# EAGLE library part DSPIC33FJ32GP204-I/PT (library Microchip_By_element14_Batch_1)
16-bit Digital Signal Controllers
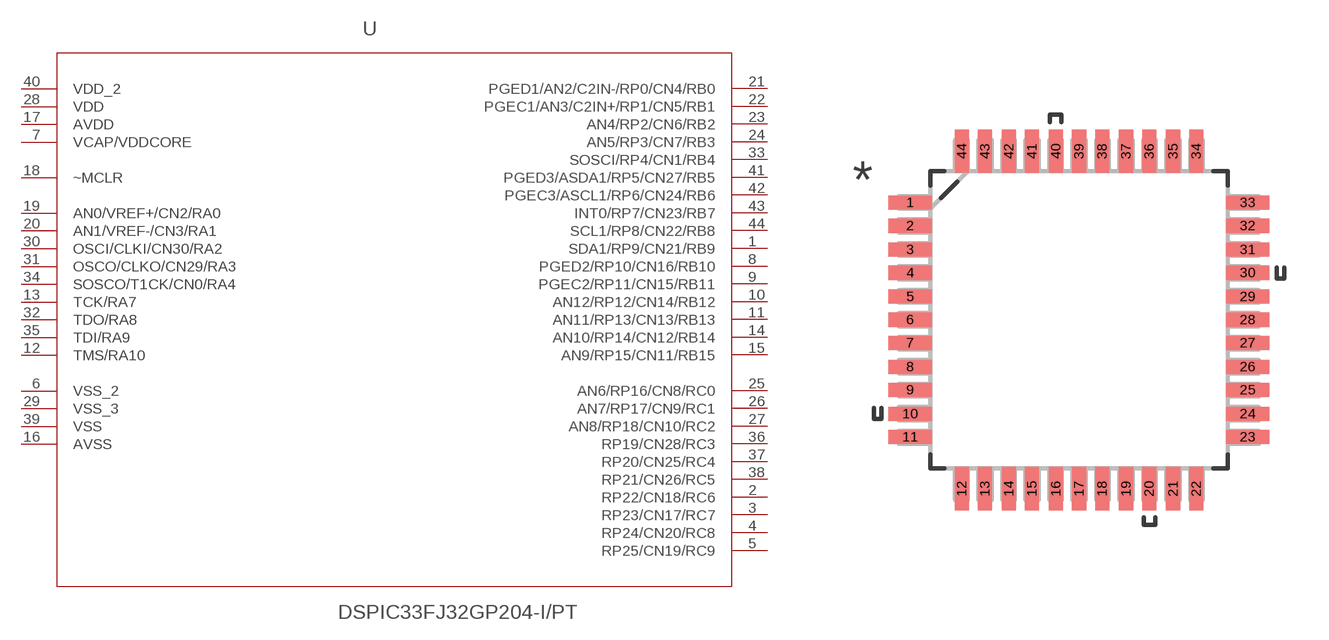
[diagram p399: symbol with the pads of QFP80P1200X1200X120-44N; footprint QFP80P1200X1200X120-44N]

Designator prefix -

## DSPIC33FJ32GP204-I/PT (DESCRIPTION: 16-bit Digital Signal Controllers; MPN: DSPIC33FJ32GP204-I/PT; OC_FARNELL: 1576916; OC_NEWARK: 39M8172; PACKAGE: TQFP-44; SUPPLIER: Microchip Technology)  [QFP80P1200X1200X120-44N]
1  SDA1/RP9/CN21/RB9
2  RP22/CN18/RC6
3  RP23/CN17/RC7
4  RP24/CN20/RC8
5  RP25/CN19/RC9
6  VSS_2  pwr
7  VCAP/VDDCORE  pwr
8  PGED2/RP10/CN16/RB10
9  PGEC2/RP11/CN15/RB11
10  AN12/RP12/CN14/RB12
11  AN11/RP13/CN13/RB13
12  TMS/RA10  nc
13  TCK/RA7  nc
14  AN10/RP14/CN12/RB14
15  AN9/RP15/CN11/RB15
16  AVSS  pwr
17  AVDD  pwr
18  ~MCLR  in
19  AN0/VREF+/CN2/RA0
20  AN1/VREF-/CN3/RA1
21  PGED1/AN2/C2IN-/RP0/CN4/RB0
22  PGEC1/AN3/C2IN+/RP1/CN5/RB1
23  AN4/RP2/CN6/RB2
24  AN5/RP3/CN7/RB3
25  AN6/RP16/CN8/RC0
26  AN7/RP17/CN9/RC1
27  AN8/RP18/CN10/RC2
28  VDD  pwr
29  VSS_3  pwr
30  OSCI/CLKI/CN30/RA2
31  OSCO/CLKO/CN29/RA3
32  TDO/RA8
33  SOSCI/RP4/CN1/RB4
34  SOSCO/T1CK/CN0/RA4
35  TDI/RA9
36  RP19/CN28/RC3
37  RP20/CN25/RC4
38  RP21/CN26/RC5
39  VSS  pwr
40  VDD_2  pwr
41  PGED3/ASDA1/RP5/CN27/RB5
42  PGEC3/ASCL1/RP6/CN24/RB6
43  INT0/RP7/CN23/RB7
44  SCL1/RP8/CN22/RB8

## Footprint QFP80P1200X1200X120-44N (pad centres in mm)
smd 1.473 x 0.483: 1 -5.74,3.988; 2 -5.74,3.2; 3 -5.74,2.388; 4 -5.74,1.6; 5 -5.74,0.787; 6 -5.74,0; 7 -5.74,-0.787; 8 -5.74,-1.6; 9 -5.74,-2.388; 10 -5.74,-3.2; 11 -5.74,-3.988; 23 5.74,-3.988; 24 5.74,-3.2; 25 5.74,-2.388; 26 5.74,-1.6; 27 5.74,-0.787; 28 5.74,0; 29 5.74,0.787; 30 5.74,1.6; 31 5.74,2.388; 32 5.74,3.2; 33 5.74,3.988
smd 0.483 x 1.473: 12 -3.988,-5.74; 13 -3.2,-5.74; 14 -2.388,-5.74; 15 -1.6,-5.74; 16 -0.787,-5.74; 17 0,-5.74; 18 0.787,-5.74; 19 1.6,-5.74; 20 2.388,-5.74; 21 3.2,-5.74; 22 3.988,-5.74; 34 3.988,5.74; 35 3.2,5.74; 36 2.388,5.74; 37 1.6,5.74; 38 0.787,5.74; 39 0,5.74; 40 -0.787,5.74; 41 -1.6,5.74; 42 -2.388,5.74; 43 -3.2,5.74; 44 -3.988,5.74